# EAGLE library part ST485CN (library ST Microelectronics)
Low power RS-485/RS-422 transceiver
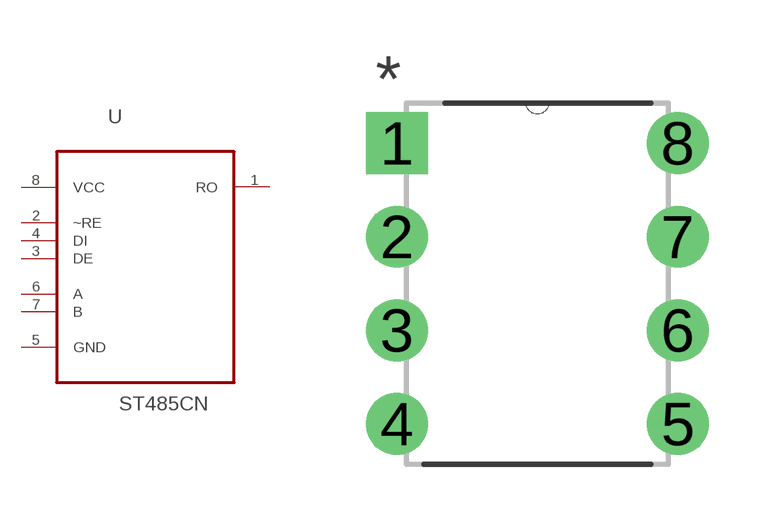
[diagram p307: symbol with the pads of DIP254P762X480-8; footprint DIP254P762X480-8]

Designator prefix U

## ST485CN (MPN: ST485CN; OC_FARNELL: 1077201; OC_NEWARK: 57P2834; PACKAGE: PDIP-8; SUPPLIER: STMICROELECTRONICS)  [DIP254P762X480-8]
1  RO  out
2  ~RE  in
3  DE  in
4  DI  in
5  GND  pas
6  A  in
7  B  in
8  VCC  pwr

## Footprint DIP254P762X480-8 (pad centres in mm)
drill 1.118 square: 1 -7.62,7.62
drill 1.118: 2 -7.62,5.08; 3 -7.62,2.54; 4 -7.62,0; 5 0,0; 6 0,2.54; 7 0,5.08; 8 0,7.62